# EAGLE library part POTENTIOMETER_6-PIN (library Inventory)
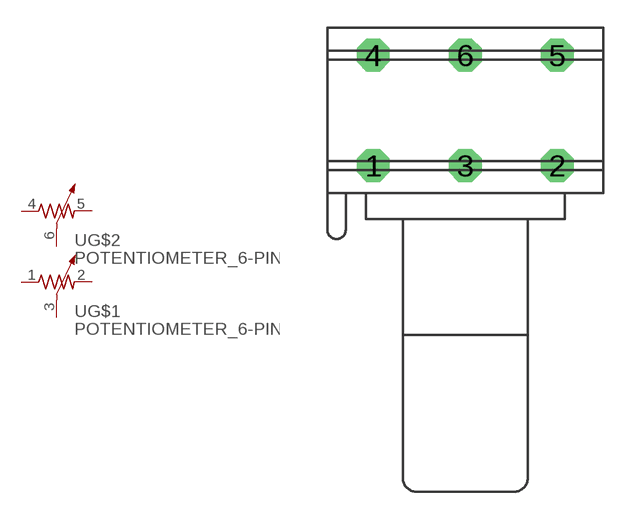
[diagram p3: symbol with the pads of POTENTIOMETER_B_6-PIN; footprint POTENTIOMETER_B_6-PIN]

Designator prefix -; gates G$1=POTENTIOMETER G$2=POTENTIOMETER

## POTENTIOMETER_6-PIN  [POTENTIOMETER_B_6-PIN]
1  G$1:1  pas
2  G$1:2  pas
3  G$1:3  pas
4  G$2:1  pas
5  G$2:2  pas
6  G$2:3  pas

## Footprint POTENTIOMETER_B_6-PIN (pad centres in mm)
drill 1 pad 1.778 octagon: 1 -5,0; 2 5,0; 3 0,0; 4 -5,6; 5 5,6; 6 0,6